# EAGLE library part JACK_RCA_2X3 (library wheat)
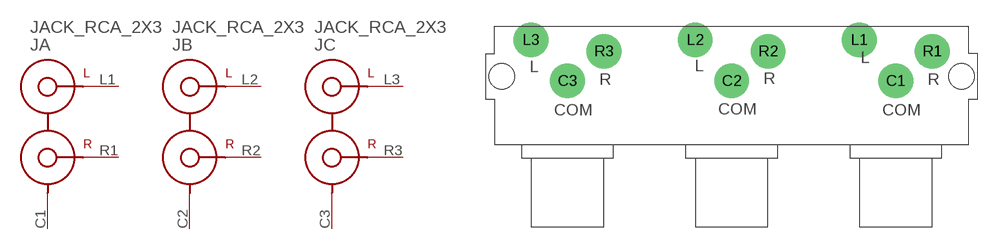
[diagram p192: symbol with the pads of JACK_RCA_2X3; footprint JACK_RCA_2X3]

Designator prefix J; gates A=JACK_DUAL_RCA B=JACK_DUAL_RCA C=JACK_DUAL_RCA

## JACK_RCA_2X3  [JACK_RCA_2X3]
C1  A:3  pas
C2  B:3  pas
C3  C:3  pas
L1  A:1  pas
L2  B:1  pas
L3  C:1  pas
R1  A:2  pas
R2  B:2  pas
R3  C:2  pas

## Footprint JACK_RCA_2X3 (pad centres in mm)
drill 1.27 pad 3.81: C1 18,7; C2 0,7; C3 -18,7; L1 14,11.5; L2 -4,11.5; L3 -22,11.5; R1 22,10.25; R2 4,10.25; R3 -14,10.25
hole 2.769 at 25.2,7.5
hole 2.769 at -25.2,7.5